# EAGLE library part MPU9250 (library MPU9250)
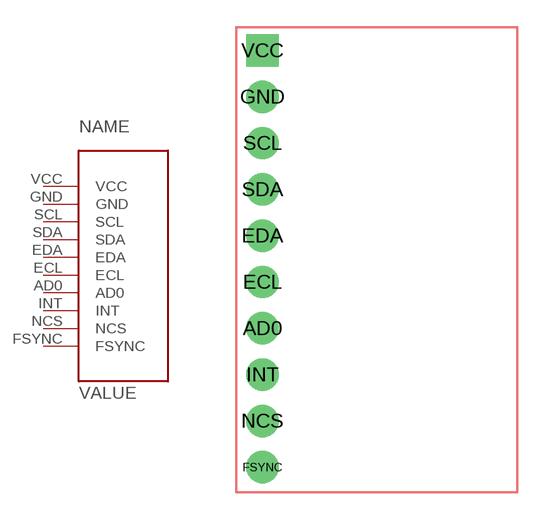
[diagram p0: symbol with the pads of MPU9250; footprint MPU9250]

Designator prefix -

## MPU9250  [MPU9250]
AD0  AD0
ECL  ECL
EDA  EDA
FSYNC  FSYNC
GND  GND
INT  INT
NCS  NCS
SCL  SCL
SDA  SDA
VCC  VCC

## Footprint MPU9250 (pad centres in mm)
drill 1 pad 1.778: AD0 -13.97,-16.51; ECL -13.97,-13.97; EDA -13.97,-11.43; FSYNC -13.97,-24.13; GND -13.97,-3.81; INT -13.97,-19.05; NCS -13.97,-21.59; SCL -13.97,-6.35; SDA -13.97,-8.89
drill 1 pad 1.778 square: VCC -13.97,-1.27